# EAGLE library part SUBD25F (library lib_stankus)
SUB-D 25 female
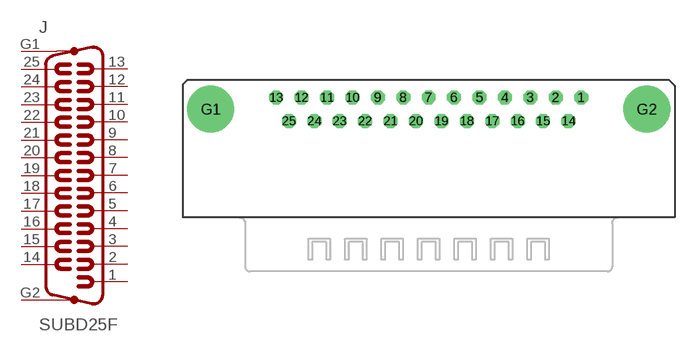
[diagram p90: symbol with the pads of SUBD25FA; footprint SUBD25FA]

Designator prefix J

## SUBD25F-ANGLE  [SUBD25FA]
1  1  pas
2  2  pas
3  3  pas
4  4  pas
5  5  pas
6  6  pas
7  7  pas
8  8  pas
9  9  pas
10  10  pas
11  11  pas
12  12  pas
13  13  pas
14  14  pas
15  15  pas
16  16  pas
17  17  pas
18  18  pas
19  19  pas
20  20  pas
21  21  pas
22  22  pas
23  23  pas
24  24  pas
25  25  pas
G1  G1  pas
G2  G2  pas

## Footprint SUBD25FA (pad centres in mm)
SUBD 25 FEMALE ANGLED
drill 1 octagon: 1 16.459,5.08; 2 13.716,5.08; 3 10.973,5.08; 4 8.23,5.08; 5 5.486,5.08; 6 2.743,5.08; 7 0,5.08; 8 -2.743,5.08; 9 -5.486,5.08; 10 -8.23,5.08; 11 -10.973,5.08; 12 -13.716,5.08; 13 -16.459,5.08; 14 15.088,2.54; 15 12.344,2.54; 16 9.601,2.54; 17 6.858,2.54; 18 4.115,2.54; 19 1.372,2.54; 20 -1.372,2.54; 21 -4.115,2.54; 22 -6.858,2.54; 23 -9.601,2.54; 24 -12.344,2.54; 25 -15.088,2.54
drill 3.3 pad 5.08 round: G1 -23.52,3.81; G2 23.52,3.81